# Altium schematic symbol library LED_0603_RED.SchLib: 1 symbol
Pins are listed as number, name and electrical type; pins without a type are passive.

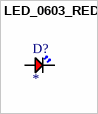
[diagram p0: symbol LED_0603_RED]

## LED_0603_RED
designator D?
20mA 225mcd Colorless Transparent Lens Positive Stick 620nm~630nm Red 120° 50mW 2.3V 0603 LED Indication - Discrete ROHS; Manufacturer: XINGLIGHT; Manufacturer Part: XL-1608UYC-06; Forward Current: 20mA; Forward Voltage: 2.3V; ComponentLink1Description: Datasheet; ComponentLink1URL: https://www.lcsc.com/datasheet/lcsc_datasheet_2504101957_XINGLIGHT-XL-1608SURC-06_C965799.pdf
footprint LED_0603_RED
pins: 1, 2